# Altium integrated library ON Semi Transient Voltage Suppressors (TVS).IntLib: 730 symbols (part 1 of 17)
Pins are listed as number, name and electrical type; pins without a type are passive.

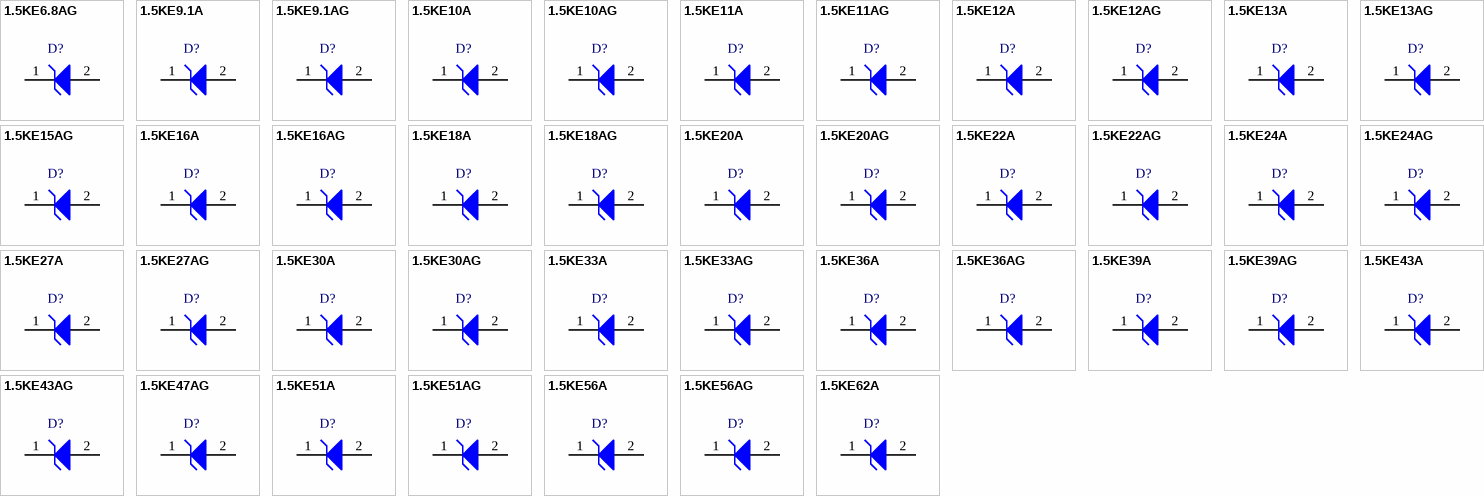
[diagram p0: symbols 1.5KE6.8AG to 1.5KE62A]

## 1.5KE6.8AG
designator D?
1500 W Mosorb(TM) Zener Transient Voltage Suppressor, Unidirectional, 2-Pin MOSORB, Pb-Free, Bulk Box; Manufacturer: On Semiconductor; PartNumber: 1.5KE6.8AG; IR Max (uA): 1000; PPK Max (W): 1500; V(BR) Typ (V): 6.8; DatasheetVersion: Rev. 13; PackageVersion: Rev. D, 01/2002; PackageReference: MOSORB-2-41A-04; PackageDescription: 2-Pin, Axial Lead, Diameter 5.05 mm; Supplier 1: Digi-Key; Supplier Part Number 1: 1.5KE6.8AGOS-ND; Supplier 2: Farnell; Supplier Part Number 2: 2317500; Supplier 3: Newark; Supplier Part Number 3: 42K2783; Supplier 4: Mouser; Supplier Part Number 4: 863-1.5KE6.8AG; Direction: Unidirectional; Packing: Bulk Box; RoHS: Pb-Free; Mounting Technology: Through Hole; ComponentLink1Description: Manufacturer URL; ComponentLink1URL: http://www.onsemi.com/; ComponentLink2Description: Datasheet; ComponentLink2URL: http://www.onsemi.com/pub_link/Collateral/1N6267A.PDF; ComponentLink3Description: Package Specification; ComponentLink3URL: http://www.onsemi.com/pub_link/Collateral/41A-04.PDF
footprint ONSC-MOSORB-2-41A-04 (AXIAL, 2-Leads, Diameter 5.05mm)
pins: 1 K, 2 A

## 1.5KE9.1A
designator D?
1500 W Mosorb(TM) Zener Transient Voltage Suppressor, Unidirectional, 2-Pin MOSORB, Bulk Box; Manufacturer: On Semiconductor; PartNumber: 1.5KE9.1A; IR Max (uA): 50; PPK Max (W): 1500; V(BR) Typ (V): 9.1; DatasheetVersion: Rev. 7; PackageVersion: Rev. D, 01/2002; PackageReference: MOSORB-2-41A-04; PackageDescription: 2-Pin, Axial Lead, Diameter 5.05 mm; Supplier 1: Digi-Key; Supplier Part Number 1: 1.5KE9.1AOS-ND; Direction: Unidirectional; Packing: Bulk Box; Mounting Technology: Through Hole; ComponentLink1Description: Manufacturer URL; ComponentLink1URL: http://www.onsemi.com/; ComponentLink2Description: Datasheet; ComponentLink2URL: http://www.onsemi.com/pub_link/Collateral/1N6267A-D.PDF; ComponentLink3Description: Package Specification; ComponentLink3URL: http://www.onsemi.com/pub_link/Collateral/41A-04.PDF
footprint ONSC-MOSORB-2-41A-04 (AXIAL, 2-Leads, Diameter 5.05mm)
pins: 1 K, 2 A

## 1.5KE9.1AG
designator D?
1500 W Mosorb(TM) Zener Transient Voltage Suppressor, Unidirectional, 2-Pin MOSORB, Pb-Free, Bulk Box; Manufacturer: On Semiconductor; PartNumber: 1.5KE9.1AG; IR Max (uA): 50; PPK Max (W): 1500; V(BR) Typ (V): 9.1; DatasheetVersion: Rev. 7; PackageVersion: Rev. D, 01/2002; PackageReference: MOSORB-2-41A-04; PackageDescription: 2-Pin, Axial Lead, Diameter 5.05 mm; Supplier 1: Digi-Key; Supplier Part Number 1: 1.5KE9.1AG-ND; Direction: Unidirectional; Packing: Bulk Box; RoHS: Pb-Free; Mounting Technology: Through Hole; ComponentLink1Description: Manufacturer URL; ComponentLink1URL: http://www.onsemi.com/; ComponentLink2Description: Datasheet; ComponentLink2URL: http://www.onsemi.com/pub_link/Collateral/1N6267A-D.PDF; ComponentLink3Description: Package Specification; ComponentLink3URL: http://www.onsemi.com/pub_link/Collateral/41A-04.PDF
footprint ONSC-MOSORB-2-41A-04 (AXIAL, 2-Leads, Diameter 5.05mm)
pins: 1 K, 2 A

## 1.5KE10A
designator D?
1500 W Mosorb(TM) Zener Transient Voltage Suppressor, Unidirectional, 2-Pin MOSORB, Bulk Box; Manufacturer: On Semiconductor; PartNumber: 1.5KE10A; IR Max (uA): 10; PPK Max (W): 1500; DatasheetVersion: Rev. 7; PackageVersion: Rev. D, 01/2002; PackageReference: MOSORB-2-41A-04; PackageDescription: 2-Pin, Axial Lead, Diameter 5.05 mm; Direction: Unidirectional; Packing: Bulk Box; V(BR) Typ (V): 10; Mounting Technology: Through Hole; ComponentLink1Description: Manufacturer URL; ComponentLink1URL: http://www.onsemi.com/; ComponentLink2Description: Datasheet; ComponentLink2URL: http://www.onsemi.com/pub_link/Collateral/1N6267A-D.PDF; ComponentLink3Description: Package Specification; ComponentLink3URL: http://www.onsemi.com/pub_link/Collateral/41A-04.PDF
footprint ONSC-MOSORB-2-41A-04 (AXIAL, 2-Leads, Diameter 5.05mm)
pins: 1 K, 2 A

## 1.5KE10AG
designator D?
1500 W Mosorb(TM) Zener Transient Voltage Suppressor, Unidirectional, 2-Pin MOSORB, Pb-Free, Bulk Box; Manufacturer: On Semiconductor; PartNumber: 1.5KE10AG; IR Max (uA): 10; PPK Max (W): 1500; DatasheetVersion: Rev. 7; PackageVersion: Rev. D, 01/2002; PackageReference: MOSORB-2-41A-04; PackageDescription: 2-Pin, Axial Lead, Diameter 5.05 mm; Supplier 1: Digi-Key; Supplier Part Number 1: 1.5KE10AG-ND; Supplier 2: Mouser; Supplier Part Number 2: 863-1.5KE10AG; Direction: Unidirectional; Packing: Bulk Box; RoHS: Pb-Free; V(BR) Typ (V): 10; Mounting Technology: Through Hole; ComponentLink1Description: Manufacturer URL; ComponentLink1URL: http://www.onsemi.com/; ComponentLink2Description: Datasheet; ComponentLink2URL: http://www.onsemi.com/pub_link/Collateral/1N6267A-D.PDF; ComponentLink3Description: Package Specification; ComponentLink3URL: http://www.onsemi.com/pub_link/Collateral/41A-04.PDF
footprint ONSC-MOSORB-2-41A-04 (AXIAL, 2-Leads, Diameter 5.05mm)
pins: 1 K, 2 A

## 1.5KE11A
designator D?
1500 W Mosorb(TM) Zener Transient Voltage Suppressor, Unidirectional, 2-Pin MOSORB, Bulk Box; Manufacturer: On Semiconductor; PartNumber: 1.5KE11A; IR Max (uA): 5; PPK Max (W): 1500; V(BR) Typ (V): 11; DatasheetVersion: Rev. 7; PackageVersion: Rev. D, 01/2002; PackageReference: MOSORB-2-41A-04; PackageDescription: 2-Pin, Axial Lead, Diameter 5.05 mm; Supplier 1: Digi-Key; Supplier Part Number 1: 1.5KE11AOS-ND; Direction: Unidirectional; Packing: Bulk Box; Mounting Technology: Through Hole; ComponentLink1Description: Manufacturer URL; ComponentLink1URL: http://www.onsemi.com/; ComponentLink2Description: Datasheet; ComponentLink2URL: http://www.onsemi.com/pub_link/Collateral/1N6267A-D.PDF; ComponentLink3Description: Package Specification; ComponentLink3URL: http://www.onsemi.com/pub_link/Collateral/41A-04.PDF
footprint ONSC-MOSORB-2-41A-04 (AXIAL, 2-Leads, Diameter 5.05mm)
pins: 1 K, 2 A

## 1.5KE11AG
designator D?
1500 W Mosorb(TM) Zener Transient Voltage Suppressor, Unidirectional, 2-Pin MOSORB, Pb-Free, Bulk Box; Manufacturer: On Semiconductor; PartNumber: 1.5KE11AG; IR Max (uA): 5; PPK Max (W): 1500; V(BR) Typ (V): 11; DatasheetVersion: Rev. 7; PackageVersion: Rev. D, 01/2002; PackageReference: MOSORB-2-41A-04; PackageDescription: 2-Pin, Axial Lead, Diameter 5.05 mm; Supplier 1: Digi-Key; Supplier Part Number 1: 1.5KE11AG-ND; Supplier 2: Mouser; Supplier Part Number 2: 863-1.5KE11AG; Direction: Unidirectional; Packing: Bulk Box; RoHS: Pb-Free; Mounting Technology: Through Hole; ComponentLink1Description: Manufacturer URL; ComponentLink1URL: http://www.onsemi.com/; ComponentLink2Description: Datasheet; ComponentLink2URL: http://www.onsemi.com/pub_link/Collateral/1N6267A-D.PDF; ComponentLink3Description: Package Specification; ComponentLink3URL: http://www.onsemi.com/pub_link/Collateral/41A-04.PDF
footprint ONSC-MOSORB-2-41A-04 (AXIAL, 2-Leads, Diameter 5.05mm)
pins: 1 K, 2 A

## 1.5KE12A
designator D?
1500 W Mosorb(TM) Zener Transient Voltage Suppressor, Unidirectional, 2-Pin MOSORB, Bulk Box; Manufacturer: On Semiconductor; PartNumber: 1.5KE12A; IR Max (uA): 5; PPK Max (W): 1500; V(BR) Typ (V): 12; DatasheetVersion: Rev. 7; PackageVersion: Rev. D, 01/2002; PackageReference: MOSORB-2-41A-04; PackageDescription: 2-Pin, Axial Lead, Diameter 5.05 mm; Direction: Unidirectional; Packing: Bulk Box; Mounting Technology: Through Hole; ComponentLink1Description: Manufacturer URL; ComponentLink1URL: http://www.onsemi.com/; ComponentLink2Description: Datasheet; ComponentLink2URL: http://www.onsemi.com/pub_link/Collateral/1N6267A-D.PDF; ComponentLink3Description: Package Specification; ComponentLink3URL: http://www.onsemi.com/pub_link/Collateral/41A-04.PDF
footprint ONSC-MOSORB-2-41A-04 (AXIAL, 2-Leads, Diameter 5.05mm)
pins: 1 K, 2 A

## 1.5KE12AG
designator D?
1500 W Mosorb(TM) Zener Transient Voltage Suppressor, Unidirectional, 2-Pin MOSORB, Pb-Free, Bulk Box; Manufacturer: On Semiconductor; PartNumber: 1.5KE12AG; IR Max (uA): 5; PPK Max (W): 1500; V(BR) Typ (V): 12; DatasheetVersion: Rev. 7; PackageVersion: Rev. D, 01/2002; PackageReference: MOSORB-2-41A-04; PackageDescription: 2-Pin, Axial Lead, Diameter 5.05 mm; Supplier 1: Digi-Key; Supplier Part Number 1: 1.5KE12AG-ND; Direction: Unidirectional; Packing: Bulk Box; RoHS: Pb-Free; Mounting Technology: Through Hole; ComponentLink1Description: Manufacturer URL; ComponentLink1URL: http://www.onsemi.com/; ComponentLink2Description: Datasheet; ComponentLink2URL: http://www.onsemi.com/pub_link/Collateral/1N6267A-D.PDF; ComponentLink3Description: Package Specification; ComponentLink3URL: http://www.onsemi.com/pub_link/Collateral/41A-04.PDF
footprint ONSC-MOSORB-2-41A-04 (AXIAL, 2-Leads, Diameter 5.05mm)
pins: 1 K, 2 A

## 1.5KE13A
designator D?
1500 W Mosorb(TM) Zener Transient Voltage Suppressor, Unidirectional, 2-Pin MOSORB, Bulk Box; Manufacturer: On Semiconductor; PartNumber: 1.5KE13A; IR Max (uA): 5; PPK Max (W): 1500; V(BR) Typ (V): 13; DatasheetVersion: Rev. 7; PackageVersion: Rev. D, 01/2002; PackageReference: MOSORB-2-41A-04; PackageDescription: 2-Pin, Axial Lead, Diameter 5.05 mm; Direction: Unidirectional; Packing: Bulk Box; Mounting Technology: Through Hole; ComponentLink1Description: Manufacturer URL; ComponentLink1URL: http://www.onsemi.com/; ComponentLink2Description: Datasheet; ComponentLink2URL: http://www.onsemi.com/pub_link/Collateral/1N6267A-D.PDF; ComponentLink3Description: Package Specification; ComponentLink3URL: http://www.onsemi.com/pub_link/Collateral/41A-04.PDF
footprint ONSC-MOSORB-2-41A-04 (AXIAL, 2-Leads, Diameter 5.05mm)
pins: 1 K, 2 A

## 1.5KE13AG
designator D?
1500 W Mosorb(TM) Zener Transient Voltage Suppressor, Unidirectional, 2-Pin MOSORB, Pb-Free, Bulk Box; Manufacturer: On Semiconductor; PartNumber: 1.5KE13AG; IR Max (uA): 5; PPK Max (W): 1500; V(BR) Typ (V): 13; DatasheetVersion: Rev. 7; PackageVersion: Rev. D, 01/2002; PackageReference: MOSORB-2-41A-04; PackageDescription: 2-Pin, Axial Lead, Diameter 5.05 mm; Direction: Unidirectional; Packing: Bulk Box; RoHS: Pb-Free; Mounting Technology: Through Hole; ComponentLink1Description: Manufacturer URL; ComponentLink1URL: http://www.onsemi.com/; ComponentLink2Description: Datasheet; ComponentLink2URL: http://www.onsemi.com/pub_link/Collateral/1N6267A-D.PDF; ComponentLink3Description: Package Specification; ComponentLink3URL: http://www.onsemi.com/pub_link/Collateral/41A-04.PDF
footprint ONSC-MOSORB-2-41A-04 (AXIAL, 2-Leads, Diameter 5.05mm)
pins: 1 K, 2 A

## 1.5KE15AG
designator D?
1500 W Mosorb(TM) Zener Transient Voltage Suppressor, Unidirectional, 2-Pin MOSORB, Pb-Free, Bulk Box; Manufacturer: On Semiconductor; PartNumber: 1.5KE15AG; IR Max (uA): 5; PPK Max (W): 1500; V(BR) Typ (V): 15; DatasheetVersion: Rev. 13; PackageVersion: Rev. D, 01/2002; PackageReference: MOSORB-2-41A-04; PackageDescription: 2-Pin, Axial Lead, Diameter 5.05 mm; Supplier 1: Digi-Key; Supplier Part Number 1: 1.5KE15AGOS-ND; Supplier 2: Farnell; Supplier Part Number 2: 1147739; Supplier 3: Newark; Supplier Part Number 3: 42K2744; Supplier 4: Mouser; Supplier Part Number 4: 863-1.5KE15AG; Direction: Unidirectional; Packing: Bulk Box; RoHS: Pb-Free; Mounting Technology: Through Hole; ComponentLink1Description: Manufacturer URL; ComponentLink1URL: http://www.onsemi.com/; ComponentLink2Description: Datasheet; ComponentLink2URL: http://www.onsemi.com/pub_link/Collateral/1N6267A.PDF; ComponentLink3Description: Package Specification; ComponentLink3URL: http://www.onsemi.com/pub_link/Collateral/41A-04.PDF
footprint ONSC-MOSORB-2-41A-04 (AXIAL, 2-Leads, Diameter 5.05mm)
pins: 1 K, 2 A

## 1.5KE16A
designator D?
1500 W Mosorb(TM) Zener Transient Voltage Suppressor, Unidirectional, 2-Pin MOSORB, Bulk Box; Manufacturer: On Semiconductor; PartNumber: 1.5KE16A; IR Max (uA): 5; PPK Max (W): 1500; V(BR) Typ (V): 16; DatasheetVersion: Rev. 7; PackageVersion: Rev. D, 01/2002; PackageReference: MOSORB-2-41A-04; PackageDescription: 2-Pin, Axial Lead, Diameter 5.05 mm; Supplier 1: Digi-Key; Supplier Part Number 1: 1.5KE16AOS-ND; Direction: Unidirectional; Packing: Bulk Box; Mounting Technology: Through Hole; ComponentLink1Description: Manufacturer URL; ComponentLink1URL: http://www.onsemi.com/; ComponentLink2Description: Datasheet; ComponentLink2URL: http://www.onsemi.com/pub_link/Collateral/1N6267A-D.PDF; ComponentLink3Description: Package Specification; ComponentLink3URL: http://www.onsemi.com/pub_link/Collateral/41A-04.PDF
footprint ONSC-MOSORB-2-41A-04 (AXIAL, 2-Leads, Diameter 5.05mm)
pins: 1 K, 2 A

## 1.5KE16AG
designator D?
1500 W Mosorb(TM) Zener Transient Voltage Suppressor, Unidirectional, 2-Pin MOSORB, Pb-Free, Bulk Box; Manufacturer: On Semiconductor; PartNumber: 1.5KE16AG; IR Max (uA): 5; PPK Max (W): 1500; V(BR) Typ (V): 16; DatasheetVersion: Rev. 7; PackageVersion: Rev. D, 01/2002; PackageReference: MOSORB-2-41A-04; PackageDescription: 2-Pin, Axial Lead, Diameter 5.05 mm; Supplier 1: Digi-Key; Supplier Part Number 1: 1.5KE16AGOS-ND; Supplier 2: Farnell; Supplier Part Number 2: 2317519; Supplier 3: Newark; Supplier Part Number 3: 90W9703; Supplier 4: Newark; Supplier Part Number 4: 42K2748; Supplier 5: Mouser; Supplier Part Number 5: 863-1.5KE16AG; Direction: Unidirectional; Packing: Bulk Box; RoHS: Pb-Free; Mounting Technology: Through Hole; ComponentLink1Description: Manufacturer URL; ComponentLink1URL: http://www.onsemi.com/; ComponentLink2Description: Datasheet; ComponentLink2URL: http://www.onsemi.com/pub_link/Collateral/1N6267A-D.PDF; ComponentLink3Description: Package Specification; ComponentLink3URL: http://www.onsemi.com/pub_link/Collateral/41A-04.PDF
footprint ONSC-MOSORB-2-41A-04 (AXIAL, 2-Leads, Diameter 5.05mm)
pins: 1 K, 2 A

## 1.5KE18A
designator D?
1500 W Mosorb(TM) Zener Transient Voltage Suppressor, Unidirectional, 2-Pin MOSORB, Bulk Box; Manufacturer: On Semiconductor; PartNumber: 1.5KE18A; IR Max (uA): 5; PPK Max (W): 1500; V(BR) Typ (V): 18; DatasheetVersion: Rev. 7; PackageVersion: Rev. D, 01/2002; PackageReference: MOSORB-2-41A-04; PackageDescription: 2-Pin, Axial Lead, Diameter 5.05 mm; Direction: Unidirectional; Packing: Bulk Box; Mounting Technology: Through Hole; ComponentLink1Description: Manufacturer URL; ComponentLink1URL: http://www.onsemi.com/; ComponentLink2Description: Datasheet; ComponentLink2URL: http://www.onsemi.com/pub_link/Collateral/1N6267A-D.PDF; ComponentLink3Description: Package Specification; ComponentLink3URL: http://www.onsemi.com/pub_link/Collateral/41A-04.PDF
footprint ONSC-MOSORB-2-41A-04 (AXIAL, 2-Leads, Diameter 5.05mm)
pins: 1 K, 2 A

## 1.5KE18AG
designator D?
1500 W Mosorb(TM) Zener Transient Voltage Suppressor, Unidirectional, 2-Pin MOSORB, Pb-Free, Bulk Box; Manufacturer: On Semiconductor; PartNumber: 1.5KE18AG; IR Max (uA): 5; PPK Max (W): 1500; V(BR) Typ (V): 18; DatasheetVersion: Rev. 7; PackageVersion: Rev. D, 01/2002; PackageReference: MOSORB-2-41A-04; PackageDescription: 2-Pin, Axial Lead, Diameter 5.05 mm; Supplier 1: Digi-Key; Supplier Part Number 1: 1.5KE18AGOS-ND; Supplier 2: Farnell; Supplier Part Number 2: 1390846; Supplier 3: Newark; Supplier Part Number 3: 42K2752; Supplier 4: Mouser; Supplier Part Number 4: 863-1.5KE18AG; Direction: Unidirectional; Packing: Bulk Box; RoHS: Pb-Free; Mounting Technology: Through Hole; ComponentLink1Description: Manufacturer URL; ComponentLink1URL: http://www.onsemi.com/; ComponentLink2Description: Datasheet; ComponentLink2URL: http://www.onsemi.com/pub_link/Collateral/1N6267A-D.PDF; ComponentLink3Description: Package Specification; ComponentLink3URL: http://www.onsemi.com/pub_link/Collateral/41A-04.PDF
footprint ONSC-MOSORB-2-41A-04 (AXIAL, 2-Leads, Diameter 5.05mm)
pins: 1 K, 2 A

## 1.5KE20A
designator D?
1500 W Mosorb(TM) Zener Transient Voltage Suppressor, Unidirectional, 2-Pin MOSORB, Bulk Box; Manufacturer: On Semiconductor; PartNumber: 1.5KE20A; IR Max (uA): 5; PPK Max (W): 1500; V(BR) Typ (V): 20; DatasheetVersion: Rev. 7; PackageVersion: Rev. D, 01/2002; PackageReference: MOSORB-2-41A-04; PackageDescription: 2-Pin, Axial Lead, Diameter 5.05 mm; Supplier 1: Digi-Key; Supplier Part Number 1: 1.5KE20AOS-ND; Direction: Unidirectional; Packing: Bulk Box; Mounting Technology: Through Hole; ComponentLink1Description: Manufacturer URL; ComponentLink1URL: http://www.onsemi.com/; ComponentLink2Description: Datasheet; ComponentLink2URL: http://www.onsemi.com/pub_link/Collateral/1N6267A-D.PDF; ComponentLink3Description: Package Specification; ComponentLink3URL: http://www.onsemi.com/pub_link/Collateral/41A-04.PDF
footprint ONSC-MOSORB-2-41A-04 (AXIAL, 2-Leads, Diameter 5.05mm)
pins: 1 K, 2 A

## 1.5KE20AG
designator D?
1500 W Mosorb(TM) Zener Transient Voltage Suppressor, Unidirectional, 2-Pin MOSORB, Pb-Free, Bulk Box; Manufacturer: On Semiconductor; PartNumber: 1.5KE20AG; IR Max (uA): 5; PPK Max (W): 1500; V(BR) Typ (V): 20; DatasheetVersion: Rev. 7; PackageVersion: Rev. D, 01/2002; PackageReference: MOSORB-2-41A-04; PackageDescription: 2-Pin, Axial Lead, Diameter 5.05 mm; Supplier 1: Digi-Key; Supplier Part Number 1: 1.5KE20AGOS-ND; Supplier 2: Farnell; Supplier Part Number 2: 1101828; Supplier 3: Newark; Supplier Part Number 3: 42K2756; Supplier 4: Mouser; Supplier Part Number 4: 863-1.5KE20AG; Direction: Unidirectional; Packing: Bulk Box; RoHS: Pb-Free; Mounting Technology: Through Hole; ComponentLink1Description: Manufacturer URL; ComponentLink1URL: http://www.onsemi.com/; ComponentLink2Description: Datasheet; ComponentLink2URL: http://www.onsemi.com/pub_link/Collateral/1N6267A-D.PDF; ComponentLink3Description: Package Specification; ComponentLink3URL: http://www.onsemi.com/pub_link/Collateral/41A-04.PDF
footprint ONSC-MOSORB-2-41A-04 (AXIAL, 2-Leads, Diameter 5.05mm)
pins: 1 K, 2 A

## 1.5KE22A
designator D?
1500 W Mosorb(TM) Zener Transient Voltage Suppressor, Unidirectional, 2-Pin MOSORB, Bulk Box; Manufacturer: On Semiconductor; PartNumber: 1.5KE22A; IR Max (uA): 5; PPK Max (W): 1500; V(BR) Typ (V): 22; DatasheetVersion: Rev. 7; PackageVersion: Rev. D, 01/2002; PackageReference: MOSORB-2-41A-04; PackageDescription: 2-Pin, Axial Lead, Diameter 5.05 mm; Direction: Unidirectional; Packing: Bulk Box; Mounting Technology: Through Hole; ComponentLink1Description: Manufacturer URL; ComponentLink1URL: http://www.onsemi.com/; ComponentLink2Description: Datasheet; ComponentLink2URL: http://www.onsemi.com/pub_link/Collateral/1N6267A-D.PDF; ComponentLink3Description: Package Specification; ComponentLink3URL: http://www.onsemi.com/pub_link/Collateral/41A-04.PDF
footprint ONSC-MOSORB-2-41A-04 (AXIAL, 2-Leads, Diameter 5.05mm)
pins: 1 K, 2 A

## 1.5KE22AG
designator D?
1500 W Mosorb(TM) Zener Transient Voltage Suppressor, Unidirectional, 2-Pin MOSORB, Pb-Free, Bulk Box; Manufacturer: On Semiconductor; PartNumber: 1.5KE22AG; IR Max (uA): 5; PPK Max (W): 1500; V(BR) Typ (V): 22; DatasheetVersion: Rev. 7; PackageVersion: Rev. D, 01/2002; PackageReference: MOSORB-2-41A-04; PackageDescription: 2-Pin, Axial Lead, Diameter 5.05 mm; Supplier 1: Digi-Key; Supplier Part Number 1: 1.5KE22AG-ND; Direction: Unidirectional; Packing: Bulk Box; RoHS: Pb-Free; Mounting Technology: Through Hole; ComponentLink1Description: Manufacturer URL; ComponentLink1URL: http://www.onsemi.com/; ComponentLink2Description: Datasheet; ComponentLink2URL: http://www.onsemi.com/pub_link/Collateral/1N6267A-D.PDF; ComponentLink3Description: Package Specification; ComponentLink3URL: http://www.onsemi.com/pub_link/Collateral/41A-04.PDF
footprint ONSC-MOSORB-2-41A-04 (AXIAL, 2-Leads, Diameter 5.05mm)
pins: 1 K, 2 A

## 1.5KE24A
designator D?
1500 W Mosorb(TM) Zener Transient Voltage Suppressor, Unidirectional, 2-Pin MOSORB, Bulk Box; Manufacturer: On Semiconductor; PartNumber: 1.5KE24A; IR Max (uA): 5; PPK Max (W): 1500; V(BR) Typ (V): 24; DatasheetVersion: Rev. 7; PackageVersion: Rev. D, 01/2002; PackageReference: MOSORB-2-41A-04; PackageDescription: 2-Pin, Axial Lead, Diameter 5.05 mm; Direction: Unidirectional; Packing: Bulk Box; Mounting Technology: Through Hole; ComponentLink1Description: Manufacturer URL; ComponentLink1URL: http://www.onsemi.com/; ComponentLink2Description: Datasheet; ComponentLink2URL: http://www.onsemi.com/pub_link/Collateral/1N6267A-D.PDF; ComponentLink3Description: Package Specification; ComponentLink3URL: http://www.onsemi.com/pub_link/Collateral/41A-04.PDF
footprint ONSC-MOSORB-2-41A-04 (AXIAL, 2-Leads, Diameter 5.05mm)
pins: 1 K, 2 A

## 1.5KE24AG
designator D?
1500 W Mosorb(TM) Zener Transient Voltage Suppressor, Unidirectional, 2-Pin MOSORB, Pb-Free, Bulk Box; Manufacturer: On Semiconductor; PartNumber: 1.5KE24AG; IR Max (uA): 5; PPK Max (W): 1500; V(BR) Typ (V): 24; DatasheetVersion: Rev. 7; PackageVersion: Rev. D, 01/2002; PackageReference: MOSORB-2-41A-04; PackageDescription: 2-Pin, Axial Lead, Diameter 5.05 mm; Supplier 1: Digi-Key; Supplier Part Number 1: 1.5KE24AG-ND; Supplier 2: Mouser; Supplier Part Number 2: 863-1.5KE24AG; Direction: Unidirectional; Packing: Bulk Box; RoHS: Pb-Free; Mounting Technology: Through Hole; ComponentLink1Description: Manufacturer URL; ComponentLink1URL: http://www.onsemi.com/; ComponentLink2Description: Datasheet; ComponentLink2URL: http://www.onsemi.com/pub_link/Collateral/1N6267A-D.PDF; ComponentLink3Description: Package Specification; ComponentLink3URL: http://www.onsemi.com/pub_link/Collateral/41A-04.PDF
footprint ONSC-MOSORB-2-41A-04 (AXIAL, 2-Leads, Diameter 5.05mm)
pins: 1 K, 2 A

## 1.5KE27A
designator D?
1500 W Mosorb(TM) Zener Transient Voltage Suppressor, Unidirectional, 2-Pin MOSORB, Bulk Box; Manufacturer: On Semiconductor; PartNumber: 1.5KE27A; IR Max (uA): 5; PPK Max (W): 1500; V(BR) Typ (V): 27; DatasheetVersion: Rev. 7; PackageVersion: Rev. D, 01/2002; PackageReference: MOSORB-2-41A-04; PackageDescription: 2-Pin, Axial Lead, Diameter 5.05 mm; Supplier 1: Digi-Key; Supplier Part Number 1: 1.5KE27AOS-ND; Direction: Unidirectional; Packing: Bulk Box; Mounting Technology: Through Hole; ComponentLink1Description: Manufacturer URL; ComponentLink1URL: http://www.onsemi.com/; ComponentLink2Description: Datasheet; ComponentLink2URL: http://www.onsemi.com/pub_link/Collateral/1N6267A-D.PDF; ComponentLink3Description: Package Specification; ComponentLink3URL: http://www.onsemi.com/pub_link/Collateral/41A-04.PDF
footprint ONSC-MOSORB-2-41A-04 (AXIAL, 2-Leads, Diameter 5.05mm)
pins: 1 K, 2 A

## 1.5KE27AG
designator D?
1500 W Mosorb(TM) Zener Transient Voltage Suppressor, Unidirectional, 2-Pin MOSORB, Pb-Free, Bulk Box; Manufacturer: On Semiconductor; PartNumber: 1.5KE27AG; IR Max (uA): 5; PPK Max (W): 1500; V(BR) Typ (V): 27; DatasheetVersion: Rev. 7; PackageVersion: Rev. D, 01/2002; PackageReference: MOSORB-2-41A-04; PackageDescription: 2-Pin, Axial Lead, Diameter 5.05 mm; Supplier 1: Digi-Key; Supplier Part Number 1: 1.5KE27AGOS-ND; Supplier 2: Newark; Supplier Part Number 2: 42K2767; Supplier 3: Mouser; Supplier Part Number 3: 863-1.5KE27AG; Direction: Unidirectional; Packing: Bulk Box; RoHS: Pb-Free; Mounting Technology: Through Hole; ComponentLink1Description: Manufacturer URL; ComponentLink1URL: http://www.onsemi.com/; ComponentLink2Description: Datasheet; ComponentLink2URL: http://www.onsemi.com/pub_link/Collateral/1N6267A-D.PDF; ComponentLink3Description: Package Specification; ComponentLink3URL: http://www.onsemi.com/pub_link/Collateral/41A-04.PDF
footprint ONSC-MOSORB-2-41A-04 (AXIAL, 2-Leads, Diameter 5.05mm)
pins: 1 K, 2 A

## 1.5KE30A
designator D?
1500 W Mosorb(TM) Zener Transient Voltage Suppressor, Unidirectional, 2-Pin MOSORB, Bulk Box; Manufacturer: On Semiconductor; PartNumber: 1.5KE30A; IR Max (uA): 5; PPK Max (W): 1500; V(BR) Typ (V): 30; DatasheetVersion: Rev. 7; PackageVersion: Rev. D, 01/2002; PackageReference: MOSORB-2-41A-04; PackageDescription: 2-Pin, Axial Lead, Diameter 5.05 mm; Supplier 1: Digi-Key; Supplier Part Number 1: 1.5KE30AOS-ND; Direction: Unidirectional; Packing: Bulk Box; Mounting Technology: Through Hole; ComponentLink1Description: Manufacturer URL; ComponentLink1URL: http://www.onsemi.com/; ComponentLink2Description: Datasheet; ComponentLink2URL: http://www.onsemi.com/pub_link/Collateral/1N6267A-D.PDF; ComponentLink3Description: Package Specification; ComponentLink3URL: http://www.onsemi.com/pub_link/Collateral/41A-04.PDF
footprint ONSC-MOSORB-2-41A-04 (AXIAL, 2-Leads, Diameter 5.05mm)
pins: 1 K, 2 A

## 1.5KE30AG
designator D?
1500 W Mosorb(TM) Zener Transient Voltage Suppressor, Unidirectional, 2-Pin MOSORB, Pb-Free, Bulk Box; Manufacturer: On Semiconductor; PartNumber: 1.5KE30AG; IR Max (uA): 5; PPK Max (W): 1500; V(BR) Typ (V): 30; DatasheetVersion: Rev. 7; PackageVersion: Rev. D, 01/2002; PackageReference: MOSORB-2-41A-04; PackageDescription: 2-Pin, Axial Lead, Diameter 5.05 mm; Supplier 1: Digi-Key; Supplier Part Number 1: 1.5KE30AGOS-ND; Supplier 2: Farnell; Supplier Part Number 2: 1147741; Supplier 3: Newark; Supplier Part Number 3: 42K2769; Supplier 4: Mouser; Supplier Part Number 4: 863-1.5KE30AG; Direction: Unidirectional; Packing: Bulk Box; RoHS: Pb-Free; Mounting Technology: Through Hole; ComponentLink1Description: Manufacturer URL; ComponentLink1URL: http://www.onsemi.com/; ComponentLink2Description: Datasheet; ComponentLink2URL: http://www.onsemi.com/pub_link/Collateral/1N6267A-D.PDF; ComponentLink3Description: Package Specification; ComponentLink3URL: http://www.onsemi.com/pub_link/Collateral/41A-04.PDF
footprint ONSC-MOSORB-2-41A-04 (AXIAL, 2-Leads, Diameter 5.05mm)
pins: 1 K, 2 A

## 1.5KE33A
designator D?
1500 W Mosorb(TM) Zener Transient Voltage Suppressor, Unidirectional, 2-Pin MOSORB, Bulk Box; Manufacturer: On Semiconductor; PartNumber: 1.5KE33A; IR Max (uA): 5; PPK Max (W): 1500; V(BR) Typ (V): 33; DatasheetVersion: Rev. 7; PackageVersion: Rev. D, 01/2002; PackageReference: MOSORB-2-41A-04; PackageDescription: 2-Pin, Axial Lead, Diameter 5.05 mm; Supplier 1: Digi-Key; Supplier Part Number 1: 1.5KE33AOS-ND; Direction: Unidirectional; Packing: Bulk Box; Mounting Technology: Through Hole; ComponentLink1Description: Manufacturer URL; ComponentLink1URL: http://www.onsemi.com/; ComponentLink2Description: Datasheet; ComponentLink2URL: http://www.onsemi.com/pub_link/Collateral/1N6267A-D.PDF; ComponentLink3Description: Package Specification; ComponentLink3URL: http://www.onsemi.com/pub_link/Collateral/41A-04.PDF
footprint ONSC-MOSORB-2-41A-04 (AXIAL, 2-Leads, Diameter 5.05mm)
pins: 1 K, 2 A

## 1.5KE33AG
designator D?
1500 W Mosorb(TM) Zener Transient Voltage Suppressor, Unidirectional, 2-Pin MOSORB, Pb-Free, Bulk Box; Manufacturer: On Semiconductor; PartNumber: 1.5KE33AG; IR Max (uA): 5; PPK Max (W): 1500; V(BR) Typ (V): 33; DatasheetVersion: Rev. 7; PackageVersion: Rev. D, 01/2002; PackageReference: MOSORB-2-41A-04; PackageDescription: 2-Pin, Axial Lead, Diameter 5.05 mm; Supplier 1: Digi-Key; Supplier Part Number 1: 1.5KE33AGOS-ND; Supplier 2: Farnell; Supplier Part Number 2: 1107129; Supplier 3: Newark; Supplier Part Number 3: 42K2771; Supplier 4: Mouser; Supplier Part Number 4: 863-1.5KE33AG; Direction: Unidirectional; Packing: Bulk Box; RoHS: Pb-Free; Mounting Technology: Through Hole; ComponentLink1Description: Manufacturer URL; ComponentLink1URL: http://www.onsemi.com/; ComponentLink2Description: Datasheet; ComponentLink2URL: http://www.onsemi.com/pub_link/Collateral/1N6267A-D.PDF; ComponentLink3Description: Package Specification; ComponentLink3URL: http://www.onsemi.com/pub_link/Collateral/41A-04.PDF
footprint ONSC-MOSORB-2-41A-04 (AXIAL, 2-Leads, Diameter 5.05mm)
pins: 1 K, 2 A

## 1.5KE36A
designator D?
1500 W Mosorb(TM) Zener Transient Voltage Suppressor, Unidirectional, 2-Pin MOSORB, Bulk Box; Manufacturer: On Semiconductor; PartNumber: 1.5KE36A; IR Max (uA): 5; PPK Max (W): 1500; V(BR) Typ (V): 36; DatasheetVersion: Rev. 7; PackageVersion: Rev. D, 01/2002; PackageReference: MOSORB-2-41A-04; PackageDescription: 2-Pin, Axial Lead, Diameter 5.05 mm; Direction: Unidirectional; Packing: Bulk Box; Mounting Technology: Through Hole; ComponentLink1Description: Manufacturer URL; ComponentLink1URL: http://www.onsemi.com/; ComponentLink2Description: Datasheet; ComponentLink2URL: http://www.onsemi.com/pub_link/Collateral/1N6267A-D.PDF; ComponentLink3Description: Package Specification; ComponentLink3URL: http://www.onsemi.com/pub_link/Collateral/41A-04.PDF
footprint ONSC-MOSORB-2-41A-04 (AXIAL, 2-Leads, Diameter 5.05mm)
pins: 1 K, 2 A

## 1.5KE36AG
designator D?
1500 W Mosorb(TM) Zener Transient Voltage Suppressor, Unidirectional, 2-Pin MOSORB, Pb-Free, Bulk Box; Manufacturer: On Semiconductor; PartNumber: 1.5KE36AG; IR Max (uA): 5; PPK Max (W): 1500; V(BR) Typ (V): 36; DatasheetVersion: Rev. 7; PackageVersion: Rev. D, 01/2002; PackageReference: MOSORB-2-41A-04; PackageDescription: 2-Pin, Axial Lead, Diameter 5.05 mm; Supplier 1: Digi-Key; Supplier Part Number 1: 1.5KE36AGOS-ND; Supplier 2: Farnell; Supplier Part Number 2: 1126293; Supplier 3: Newark; Supplier Part Number 3: 42K2773; Supplier 4: Mouser; Supplier Part Number 4: 863-1.5KE36AG; Direction: Unidirectional; Packing: Bulk Box; RoHS: Pb-Free; Mounting Technology: Through Hole; ComponentLink1Description: Manufacturer URL; ComponentLink1URL: http://www.onsemi.com/; ComponentLink2Description: Datasheet; ComponentLink2URL: http://www.onsemi.com/pub_link/Collateral/1N6267A-D.PDF; ComponentLink3Description: Package Specification; ComponentLink3URL: http://www.onsemi.com/pub_link/Collateral/41A-04.PDF
footprint ONSC-MOSORB-2-41A-04 (AXIAL, 2-Leads, Diameter 5.05mm)
pins: 1 K, 2 A

## 1.5KE39A
designator D?
1500 W Mosorb(TM) Zener Transient Voltage Suppressor, Unidirectional, 2-Pin MOSORB, Bulk Box; Manufacturer: On Semiconductor; PartNumber: 1.5KE39A; IR Max (uA): 5; PPK Max (W): 1500; V(BR) Typ (V): 39; DatasheetVersion: Rev. 7; PackageVersion: Rev. D, 01/2002; PackageReference: MOSORB-2-41A-04; PackageDescription: 2-Pin, Axial Lead, Diameter 5.05 mm; Direction: Unidirectional; Packing: Bulk Box; Mounting Technology: Through Hole; ComponentLink1Description: Manufacturer URL; ComponentLink1URL: http://www.onsemi.com/; ComponentLink2Description: Datasheet; ComponentLink2URL: http://www.onsemi.com/pub_link/Collateral/1N6267A-D.PDF; ComponentLink3Description: Package Specification; ComponentLink3URL: http://www.onsemi.com/pub_link/Collateral/41A-04.PDF
footprint ONSC-MOSORB-2-41A-04 (AXIAL, 2-Leads, Diameter 5.05mm)
pins: 1 K, 2 A

## 1.5KE39AG
designator D?
1500 W Mosorb(TM) Zener Transient Voltage Suppressor, Unidirectional, 2-Pin MOSORB, Pb-Free, Bulk Box; Manufacturer: On Semiconductor; PartNumber: 1.5KE39AG; IR Max (uA): 5; PPK Max (W): 1500; V(BR) Typ (V): 39; DatasheetVersion: Rev. 7; PackageVersion: Rev. D, 01/2002; PackageReference: MOSORB-2-41A-04; PackageDescription: 2-Pin, Axial Lead, Diameter 5.05 mm; Direction: Unidirectional; Packing: Bulk Box; RoHS: Pb-Free; Mounting Technology: Through Hole; ComponentLink1Description: Manufacturer URL; ComponentLink1URL: http://www.onsemi.com/; ComponentLink2Description: Datasheet; ComponentLink2URL: http://www.onsemi.com/pub_link/Collateral/1N6267A-D.PDF; ComponentLink3Description: Package Specification; ComponentLink3URL: http://www.onsemi.com/pub_link/Collateral/41A-04.PDF
footprint ONSC-MOSORB-2-41A-04 (AXIAL, 2-Leads, Diameter 5.05mm)
pins: 1 K, 2 A

## 1.5KE43A
designator D?
1500 W Mosorb(TM) Zener Transient Voltage Suppressor, Unidirectional, 2-Pin MOSORB, Bulk Box; Manufacturer: On Semiconductor; PartNumber: 1.5KE43A; IR Max (uA): 5; PPK Max (W): 1500; V(BR) Typ (V): 43; DatasheetVersion: Rev. 7; PackageVersion: Rev. D, 01/2002; PackageReference: MOSORB-2-41A-04; PackageDescription: 2-Pin, Axial Lead, Diameter 5.05 mm; Supplier 1: Digi-Key; Supplier Part Number 1: 1.5KE43AOS-ND; Direction: Unidirectional; Packing: Bulk Box; Mounting Technology: Through Hole; ComponentLink1Description: Manufacturer URL; ComponentLink1URL: http://www.onsemi.com/; ComponentLink2Description: Datasheet; ComponentLink2URL: http://www.onsemi.com/pub_link/Collateral/1N6267A-D.PDF; ComponentLink3Description: Package Specification; ComponentLink3URL: http://www.onsemi.com/pub_link/Collateral/41A-04.PDF
footprint ONSC-MOSORB-2-41A-04 (AXIAL, 2-Leads, Diameter 5.05mm)
pins: 1 K, 2 A

## 1.5KE43AG
designator D?
1500 W Mosorb(TM) Zener Transient Voltage Suppressor, Unidirectional, 2-Pin MOSORB, Pb-Free, Bulk Box; Manufacturer: On Semiconductor; PartNumber: 1.5KE43AG; IR Max (uA): 5; PPK Max (W): 1500; V(BR) Typ (V): 43; DatasheetVersion: Rev. 7; PackageVersion: Rev. D, 01/2002; PackageReference: MOSORB-2-41A-04; PackageDescription: 2-Pin, Axial Lead, Diameter 5.05 mm; Supplier 1: Digi-Key; Supplier Part Number 1: 1.5KE43AGOS-ND; Supplier 2: Farnell; Supplier Part Number 2: 2317518; Supplier 3: Newark; Supplier Part Number 3: 90W9704; Supplier 4: Newark; Supplier Part Number 4: 42K2776; Supplier 5: Mouser; Supplier Part Number 5: 863-1.5KE43AG; Direction: Unidirectional; Packing: Bulk Box; RoHS: Pb-Free; Mounting Technology: Through Hole; ComponentLink1Description: Manufacturer URL; ComponentLink1URL: http://www.onsemi.com/; ComponentLink2Description: Datasheet; ComponentLink2URL: http://www.onsemi.com/pub_link/Collateral/1N6267A-D.PDF; ComponentLink3Description: Package Specification; ComponentLink3URL: http://www.onsemi.com/pub_link/Collateral/41A-04.PDF
footprint ONSC-MOSORB-2-41A-04 (AXIAL, 2-Leads, Diameter 5.05mm)
pins: 1 K, 2 A

## 1.5KE47AG
designator D?
1500 W Mosorb(TM) Zener Transient Voltage Suppressor, Unidirectional, 2-Pin MOSORB, Pb-Free, Bulk Box; Manufacturer: On Semiconductor; PartNumber: 1.5KE47AG; IR Max (uA): 5; PPK Max (W): 1500; V(BR) Typ (V): 47; DatasheetVersion: Rev. 13; PackageVersion: Rev. D, 01/2002; PackageReference: MOSORB-2-41A-04; PackageDescription: 2-Pin, Axial Lead, Diameter 5.05 mm; Supplier 1: Digi-Key; Supplier Part Number 1: 1.5KE47AGOS-ND; Supplier 2: Farnell; Supplier Part Number 2: 1147743; Supplier 3: Newark; Supplier Part Number 3: 42K2778; Supplier 4: Mouser; Supplier Part Number 4: 863-1.5KE47AG; Direction: Unidirectional; Packing: Bulk Box; RoHS: Pb-Free; Mounting Technology: Through Hole; ComponentLink1Description: Manufacturer URL; ComponentLink1URL: http://www.onsemi.com/; ComponentLink2Description: Datasheet; ComponentLink2URL: http://www.onsemi.com/pub_link/Collateral/1N6267A.PDF; ComponentLink3Description: Package Specification; ComponentLink3URL: http://www.onsemi.com/pub_link/Collateral/41A-04.PDF
footprint ONSC-MOSORB-2-41A-04 (AXIAL, 2-Leads, Diameter 5.05mm)
pins: 1 K, 2 A

## 1.5KE51A
designator D?
1500 W Mosorb(TM) Zener Transient Voltage Suppressor, Unidirectional, 2-Pin MOSORB, Bulk Box; Manufacturer: On Semiconductor; PartNumber: 1.5KE51A; IR Max (uA): 5; PPK Max (W): 1500; V(BR) Typ (V): 51; DatasheetVersion: Rev. 7; PackageVersion: Rev. D, 01/2002; PackageReference: MOSORB-2-41A-04; PackageDescription: 2-Pin, Axial Lead, Diameter 5.05 mm; Direction: Unidirectional; Packing: Bulk Box; Mounting Technology: Through Hole; ComponentLink1Description: Manufacturer URL; ComponentLink1URL: http://www.onsemi.com/; ComponentLink2Description: Datasheet; ComponentLink2URL: http://www.onsemi.com/pub_link/Collateral/1N6267A-D.PDF; ComponentLink3Description: Package Specification; ComponentLink3URL: http://www.onsemi.com/pub_link/Collateral/41A-04.PDF
footprint ONSC-MOSORB-2-41A-04 (AXIAL, 2-Leads, Diameter 5.05mm)
pins: 1 K, 2 A

## 1.5KE51AG
designator D?
1500 W Mosorb(TM) Zener Transient Voltage Suppressor, Unidirectional, 2-Pin MOSORB, Pb-Free, Bulk Box; Manufacturer: On Semiconductor; PartNumber: 1.5KE51AG; IR Max (uA): 5; PPK Max (W): 1500; V(BR) Typ (V): 51; DatasheetVersion: Rev. 7; PackageVersion: Rev. D, 01/2002; PackageReference: MOSORB-2-41A-04; PackageDescription: 2-Pin, Axial Lead, Diameter 5.05 mm; Direction: Unidirectional; Packing: Bulk Box; RoHS: Pb-Free; Mounting Technology: Through Hole; ComponentLink1Description: Manufacturer URL; ComponentLink1URL: http://www.onsemi.com/; ComponentLink2Description: Datasheet; ComponentLink2URL: http://www.onsemi.com/pub_link/Collateral/1N6267A-D.PDF; ComponentLink3Description: Package Specification; ComponentLink3URL: http://www.onsemi.com/pub_link/Collateral/41A-04.PDF
footprint ONSC-MOSORB-2-41A-04 (AXIAL, 2-Leads, Diameter 5.05mm)
pins: 1 K, 2 A

## 1.5KE56A
designator D?
1500 W Mosorb(TM) Zener Transient Voltage Suppressor, Unidirectional, 2-Pin MOSORB, Bulk Box; Manufacturer: On Semiconductor; PartNumber: 1.5KE56A; IR Max (uA): 5; PPK Max (W): 1500; V(BR) Typ (V): 56; DatasheetVersion: Rev. 7; PackageVersion: Rev. D, 01/2002; PackageReference: MOSORB-2-41A-04; PackageDescription: 2-Pin, Axial Lead, Diameter 5.05 mm; Direction: Unidirectional; Packing: Bulk Box; Mounting Technology: Through Hole; ComponentLink1Description: Manufacturer URL; ComponentLink1URL: http://www.onsemi.com/; ComponentLink2Description: Datasheet; ComponentLink2URL: http://www.onsemi.com/pub_link/Collateral/1N6267A-D.PDF; ComponentLink3Description: Package Specification; ComponentLink3URL: http://www.onsemi.com/pub_link/Collateral/41A-04.PDF
footprint ONSC-MOSORB-2-41A-04 (AXIAL, 2-Leads, Diameter 5.05mm)
pins: 1 K, 2 A

## 1.5KE56AG
designator D?
1500 W Mosorb(TM) Zener Transient Voltage Suppressor, Unidirectional, 2-Pin MOSORB, Pb-Free, Bulk Box; Manufacturer: On Semiconductor; PartNumber: 1.5KE56AG; IR Max (uA): 5; PPK Max (W): 1500; V(BR) Typ (V): 56; DatasheetVersion: Rev. 7; PackageVersion: Rev. D, 01/2002; PackageReference: MOSORB-2-41A-04; PackageDescription: 2-Pin, Axial Lead, Diameter 5.05 mm; Supplier 1: Digi-Key; Supplier Part Number 1: 1.5KE56AG-ND; Supplier 2: Mouser; Supplier Part Number 2: 863-1.5KE56AG; Direction: Unidirectional; Packing: Bulk Box; RoHS: Pb-Free; Mounting Technology: Through Hole; ComponentLink1Description: Manufacturer URL; ComponentLink1URL: http://www.onsemi.com/; ComponentLink2Description: Datasheet; ComponentLink2URL: http://www.onsemi.com/pub_link/Collateral/1N6267A-D.PDF; ComponentLink3Description: Package Specification; ComponentLink3URL: http://www.onsemi.com/pub_link/Collateral/41A-04.PDF
footprint ONSC-MOSORB-2-41A-04 (AXIAL, 2-Leads, Diameter 5.05mm)
pins: 1 K, 2 A

## 1.5KE62A
designator D?
1500 W Mosorb(TM) Zener Transient Voltage Suppressor, Unidirectional, 2-Pin MOSORB, Bulk Box; Manufacturer: On Semiconductor; PartNumber: 1.5KE62A; IR Max (uA): 5; PPK Max (W): 1500; V(BR) Typ (V): 62; DatasheetVersion: Rev. 7; PackageVersion: Rev. D, 01/2002; PackageReference: MOSORB-2-41A-04; PackageDescription: 2-Pin, Axial Lead, Diameter 5.05 mm; Supplier 1: Digi-Key; Supplier Part Number 1: 1.5KE62AOS-ND; Direction: Unidirectional; Packing: Bulk Box; Mounting Technology: Through Hole; ComponentLink1Description: Manufacturer URL; ComponentLink1URL: http://www.onsemi.com/; ComponentLink2Description: Datasheet; ComponentLink2URL: http://www.onsemi.com/pub_link/Collateral/1N6267A-D.PDF; ComponentLink3Description: Package Specification; ComponentLink3URL: http://www.onsemi.com/pub_link/Collateral/41A-04.PDF
footprint ONSC-MOSORB-2-41A-04 (AXIAL, 2-Leads, Diameter 5.05mm)
pins: 1 K, 2 A

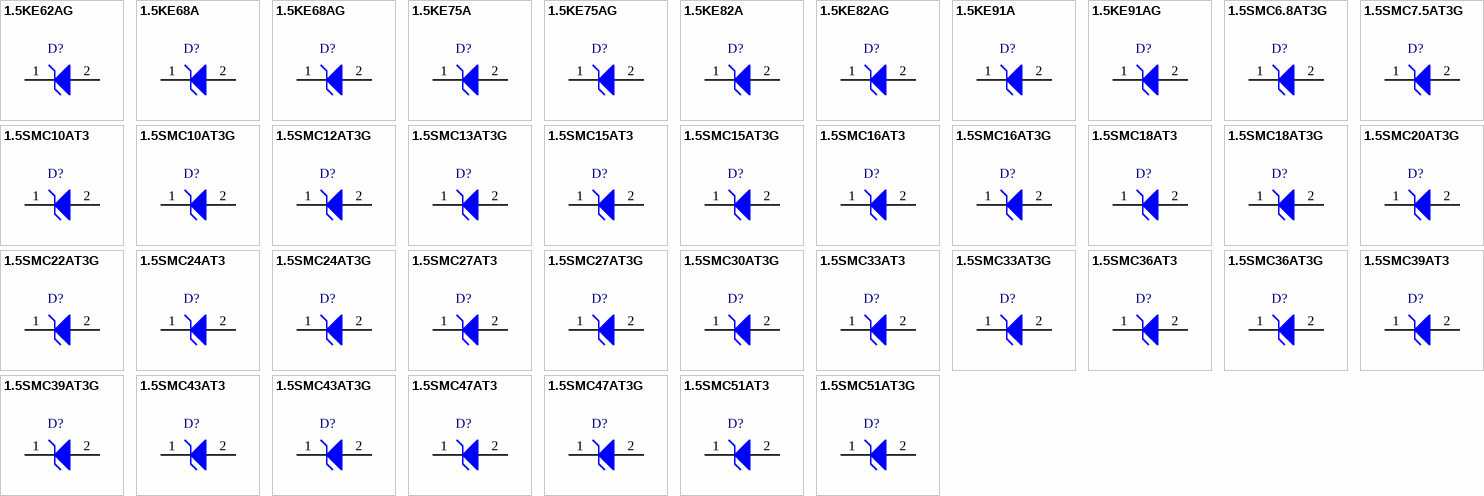
[diagram p1: symbols 1.5KE62AG to 1.5SMC51AT3G]

## 1.5KE62AG
designator D?
1500 W Mosorb(TM) Zener Transient Voltage Suppressor, Unidirectional, 2-Pin MOSORB, Pb-Free, Bulk Box; Manufacturer: On Semiconductor; PartNumber: 1.5KE62AG; IR Max (uA): 5; PPK Max (W): 1500; V(BR) Typ (V): 62; DatasheetVersion: Rev. 7; PackageVersion: Rev. D, 01/2002; PackageReference: MOSORB-2-41A-04; PackageDescription: 2-Pin, Axial Lead, Diameter 5.05 mm; Supplier 1: Digi-Key; Supplier Part Number 1: 1.5KE62AGOS-ND; Supplier 2: Newark; Supplier Part Number 2: 42K2785; Supplier 3: Mouser; Supplier Part Number 3: 863-1.5KE62AG; Direction: Unidirectional; Packing: Bulk Box; RoHS: Pb-Free; Mounting Technology: Through Hole; ComponentLink1Description: Manufacturer URL; ComponentLink1URL: http://www.onsemi.com/; ComponentLink2Description: Datasheet; ComponentLink2URL: http://www.onsemi.com/pub_link/Collateral/1N6267A-D.PDF; ComponentLink3Description: Package Specification; ComponentLink3URL: http://www.onsemi.com/pub_link/Collateral/41A-04.PDF
footprint ONSC-MOSORB-2-41A-04 (AXIAL, 2-Leads, Diameter 5.05mm)
pins: 1 K, 2 A

## 1.5KE68A
designator D?
1500 W Mosorb(TM) Zener Transient Voltage Suppressor, Unidirectional, 2-Pin MOSORB, Bulk Box; Manufacturer: On Semiconductor; PartNumber: 1.5KE68A; IR Max (uA): 5; PPK Max (W): 1500; V(BR) Typ (V): 68; DatasheetVersion: Rev. 7; PackageVersion: Rev. D, 01/2002; PackageReference: MOSORB-2-41A-04; PackageDescription: 2-Pin, Axial Lead, Diameter 5.05 mm; Supplier 1: Digi-Key; Supplier Part Number 1: 1.5KE68AOS-ND; Direction: Unidirectional; Packing: Bulk Box; Mounting Technology: Through Hole; ComponentLink1Description: Manufacturer URL; ComponentLink1URL: http://www.onsemi.com/; ComponentLink2Description: Datasheet; ComponentLink2URL: http://www.onsemi.com/pub_link/Collateral/1N6267A-D.PDF; ComponentLink3Description: Package Specification; ComponentLink3URL: http://www.onsemi.com/pub_link/Collateral/41A-04.PDF
footprint ONSC-MOSORB-2-41A-04 (AXIAL, 2-Leads, Diameter 5.05mm)
pins: 1 K, 2 A

## 1.5KE68AG
designator D?
1500 W Mosorb(TM) Zener Transient Voltage Suppressor, Unidirectional, 2-Pin MOSORB, Pb-Free, Bulk Box; Manufacturer: On Semiconductor; PartNumber: 1.5KE68AG; IR Max (uA): 5; PPK Max (W): 1500; V(BR) Typ (V): 68; DatasheetVersion: Rev. 7; PackageVersion: Rev. D, 01/2002; PackageReference: MOSORB-2-41A-04; PackageDescription: 2-Pin, Axial Lead, Diameter 5.05 mm; Supplier 1: Digi-Key; Supplier Part Number 1: 1.5KE68AGOS-ND; Supplier 2: Newark; Supplier Part Number 2: 42K2787; Supplier 3: Mouser; Supplier Part Number 3: 863-1.5KE68AG; Direction: Unidirectional; Packing: Bulk Box; RoHS: Pb-Free; Mounting Technology: Through Hole; ComponentLink1Description: Manufacturer URL; ComponentLink1URL: http://www.onsemi.com/; ComponentLink2Description: Datasheet; ComponentLink2URL: http://www.onsemi.com/pub_link/Collateral/1N6267A-D.PDF; ComponentLink3Description: Package Specification; ComponentLink3URL: http://www.onsemi.com/pub_link/Collateral/41A-04.PDF
footprint ONSC-MOSORB-2-41A-04 (AXIAL, 2-Leads, Diameter 5.05mm)
pins: 1 K, 2 A

## 1.5KE75A
designator D?
1500 W Mosorb(TM) Zener Transient Voltage Suppressor, Unidirectional, 2-Pin MOSORB, Bulk Box; Manufacturer: On Semiconductor; PartNumber: 1.5KE75A; IR Max (uA): 5; PPK Max (W): 1500; V(BR) Typ (V): 75; DatasheetVersion: Rev. 7; PackageVersion: Rev. D, 01/2002; PackageReference: MOSORB-2-41A-04; PackageDescription: 2-Pin, Axial Lead, Diameter 5.05 mm; Supplier 1: Digi-Key; Supplier Part Number 1: 1.5KE75AOS-ND; Direction: Unidirectional; Packing: Bulk Box; Mounting Technology: Through Hole; ComponentLink1Description: Manufacturer URL; ComponentLink1URL: http://www.onsemi.com/; ComponentLink2Description: Datasheet; ComponentLink2URL: http://www.onsemi.com/pub_link/Collateral/1N6267A-D.PDF; ComponentLink3Description: Package Specification; ComponentLink3URL: http://www.onsemi.com/pub_link/Collateral/41A-04.PDF
footprint ONSC-MOSORB-2-41A-04 (AXIAL, 2-Leads, Diameter 5.05mm)
pins: 1 K, 2 A

## 1.5KE75AG
designator D?
1500 W Mosorb(TM) Zener Transient Voltage Suppressor, Unidirectional, 2-Pin MOSORB, Pb-Free, Bulk Box; Manufacturer: On Semiconductor; PartNumber: 1.5KE75AG; IR Max (uA): 5; PPK Max (W): 1500; V(BR) Typ (V): 75; DatasheetVersion: Rev. 7; PackageVersion: Rev. D, 01/2002; PackageReference: MOSORB-2-41A-04; PackageDescription: 2-Pin, Axial Lead, Diameter 5.05 mm; Supplier 1: Digi-Key; Supplier Part Number 1: 1.5KE75AGOS-ND; Supplier 2: Mouser; Supplier Part Number 2: 863-1.5KE75AG; Direction: Unidirectional; Packing: Bulk Box; RoHS: Pb-Free; Mounting Technology: Through Hole; ComponentLink1Description: Manufacturer URL; ComponentLink1URL: http://www.onsemi.com/; ComponentLink2Description: Datasheet; ComponentLink2URL: http://www.onsemi.com/pub_link/Collateral/1N6267A-D.PDF; ComponentLink3Description: Package Specification; ComponentLink3URL: http://www.onsemi.com/pub_link/Collateral/41A-04.PDF
footprint ONSC-MOSORB-2-41A-04 (AXIAL, 2-Leads, Diameter 5.05mm)
pins: 1 K, 2 A

## 1.5KE82A
designator D?
1500 W Mosorb(TM) Zener Transient Voltage Suppressor, Unidirectional, 2-Pin MOSORB, Bulk Box; Manufacturer: On Semiconductor; PartNumber: 1.5KE82A; IR Max (uA): 5; PPK Max (W): 1500; V(BR) Typ (V): 82; DatasheetVersion: Rev. 7; PackageVersion: Rev. D, 01/2002; PackageReference: MOSORB-2-41A-04; PackageDescription: 2-Pin, Axial Lead, Diameter 5.05 mm; Direction: Unidirectional; Packing: Bulk Box; Mounting Technology: Through Hole; ComponentLink1Description: Manufacturer URL; ComponentLink1URL: http://www.onsemi.com/; ComponentLink2Description: Datasheet; ComponentLink2URL: http://www.onsemi.com/pub_link/Collateral/1N6267A-D.PDF; ComponentLink3Description: Package Specification; ComponentLink3URL: http://www.onsemi.com/pub_link/Collateral/41A-04.PDF
footprint ONSC-MOSORB-2-41A-04 (AXIAL, 2-Leads, Diameter 5.05mm)
pins: 1 K, 2 A

## 1.5KE82AG
designator D?
1500 W Mosorb(TM) Zener Transient Voltage Suppressor, Unidirectional, 2-Pin MOSORB, Pb-Free, Bulk Box; Manufacturer: On Semiconductor; PartNumber: 1.5KE82AG; IR Max (uA): 5; PPK Max (W): 1500; V(BR) Typ (V): 82; DatasheetVersion: Rev. 7; PackageVersion: Rev. D, 01/2002; PackageReference: MOSORB-2-41A-04; PackageDescription: 2-Pin, Axial Lead, Diameter 5.05 mm; Supplier 1: Digi-Key; Supplier Part Number 1: 1.5KE82AG-ND; Supplier 2: Mouser; Supplier Part Number 2: 863-1.5KE82AG; Direction: Unidirectional; Packing: Bulk Box; RoHS: Pb-Free; Mounting Technology: Through Hole; ComponentLink1Description: Manufacturer URL; ComponentLink1URL: http://www.onsemi.com/; ComponentLink2Description: Datasheet; ComponentLink2URL: http://www.onsemi.com/pub_link/Collateral/1N6267A-D.PDF; ComponentLink3Description: Package Specification; ComponentLink3URL: http://www.onsemi.com/pub_link/Collateral/41A-04.PDF
footprint ONSC-MOSORB-2-41A-04 (AXIAL, 2-Leads, Diameter 5.05mm)
pins: 1 K, 2 A

## 1.5KE91A
designator D?
1500 W Mosorb(TM) Zener Transient Voltage Suppressor, Unidirectional, 2-Pin MOSORB, Bulk Box; Manufacturer: On Semiconductor; PartNumber: 1.5KE91A; IR Max (uA): 5; PPK Max (W): 1500; V(BR) Typ (V): 91; DatasheetVersion: Rev. 7; PackageVersion: Rev. D, 01/2002; PackageReference: MOSORB-2-41A-04; PackageDescription: 2-Pin, Axial Lead, Diameter 5.05 mm; Direction: Unidirectional; Packing: Bulk Box; Mounting Technology: Through Hole; ComponentLink1Description: Manufacturer URL; ComponentLink1URL: http://www.onsemi.com/; ComponentLink2Description: Datasheet; ComponentLink2URL: http://www.onsemi.com/pub_link/Collateral/1N6267A-D.PDF; ComponentLink3Description: Package Specification; ComponentLink3URL: http://www.onsemi.com/pub_link/Collateral/41A-04.PDF
footprint ONSC-MOSORB-2-41A-04 (AXIAL, 2-Leads, Diameter 5.05mm)
pins: 1 K, 2 A

## 1.5KE91AG
designator D?
1500 W Mosorb(TM) Zener Transient Voltage Suppressor, Unidirectional, 2-Pin MOSORB, Pb-Free, Bulk Box; Manufacturer: On Semiconductor; PartNumber: 1.5KE91AG; IR Max (uA): 5; PPK Max (W): 1500; V(BR) Typ (V): 91; DatasheetVersion: Rev. 7; PackageVersion: Rev. D, 01/2002; PackageReference: MOSORB-2-41A-04; PackageDescription: 2-Pin, Axial Lead, Diameter 5.05 mm; Direction: Unidirectional; Packing: Bulk Box; RoHS: Pb-Free; Mounting Technology: Through Hole; ComponentLink1Description: Manufacturer URL; ComponentLink1URL: http://www.onsemi.com/; ComponentLink2Description: Datasheet; ComponentLink2URL: http://www.onsemi.com/pub_link/Collateral/1N6267A-D.PDF; ComponentLink3Description: Package Specification; ComponentLink3URL: http://www.onsemi.com/pub_link/Collateral/41A-04.PDF
footprint ONSC-MOSORB-2-41A-04 (AXIAL, 2-Leads, Diameter 5.05mm)
pins: 1 K, 2 A

## 1.5SMC6.8AT3G
designator D?
1500 W Peak Power Zener Transient Voltage Suppressor, Unidirectional, 2-Pin SMC, Pb-Free, Tape and Reel; Manufacturer: On Semiconductor; PartNumber: 1.5SMC6.8AT3G; IR Max (uA): 1000; PPK Max (W): 1500; V(BR) Typ (V): 6.8; DatasheetVersion: Rev. 10; PackageVersion: Rev. E, 08/2005; PackageReference: SMC-2-403-03; PackageDescription: 2-Pin Small Molded Package, J-Bend Lead, Body 5.845 x 6.855 mm; Supplier 1: Digi-Key; Supplier Part Number 1: 1.5SMC6.8AT3GOSTR-ND; Supplier 2: Digi-Key; Supplier Part Number 2: 1.5SMC6.8AT3GOSCT-ND; Supplier 3: Digi-Key; Supplier Part Number 3: 1.5SMC6.8AT3GOSDKR-ND; Supplier 4: Farnell; Supplier Part Number 4: 1703030; Supplier 5: Newark; Supplier Part Number 5: 42K2808; Supplier 6: Mouser; Supplier Part Number 6: 863-1.5SMC6.8AT3G; Direction: Unidirectional; Packing: Tape and Reel; RoHS: Pb-Free; Mounting Technology: Surface Mount; ComponentLink1Description: Manufacturer URL; ComponentLink1URL: http://www.onsemi.com/; ComponentLink2Description: Datasheet; ComponentLink2URL: http://www.onsemi.com/pub_link/Collateral/1.5SMC6.8AT3-D.PDF; ComponentLink3Description: Package Specification; ComponentLink3URL: http://www.onsemi.com/pub_link/Collateral/403-03.PDF
footprint ONSC-SMC-2-403-03_V (Molded, 2-Leads, Body 6.86x5.84mm)
pins: 1 K, 2 A